# Altium integrated library FPGA Instruments.IntLib: 10 symbols
Pins are listed as number, name and electrical type; pins without a type are passive.

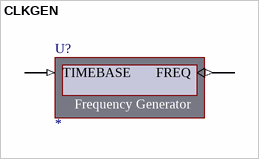
[diagram p0: symbol CLKGEN]

## CLKGEN
designator U?
Frequency Generator; NEXUS_CORE: Instrument; NEXUS_JTAG_DEVICE: True; NEXUS_JTAG_ORDER: 0; Published: 3-Nov-2004; Publisher: Altium Limited; Core Revision: 1.00.00; ComponentLink1Description: Core &Resource Usage; ComponentLink1URL: CR0134 FPGA Instrument Resource Usage.pdf#page=2; HelpURL: https://wiki.altium.com/display/ADOH/Frequency+Generator+Module; LastRevisionNo: 1.00.00
pins: FREQ (out), TIMEBASE (in)


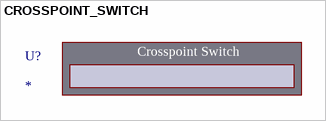
[diagram p1: symbol CROSSPOINT_SWITCH]

## CROSSPOINT_SWITCH
designator U?
Crosspoint Switch; NEXUS_CORE: Instrument; NEXUS_JTAG_DEVICE: True; NEXUS_JTAG_ORDER: 0; ConfiguratorName: CrosspointSwitch; ComponentLink1Description: Core &Resource Usage; Core Revision: 1.00.00; HelpURL: https://wiki.altium.com/display/ADOH/Crosspoint+Switch+Module; LastRevisionNo: 1.00.00; Published: 04-Jul-2007; Publisher: Altium Limited


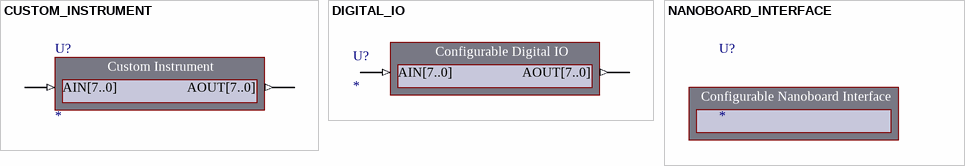
[diagram p2: symbols CUSTOM_INSTRUMENT to NANOBOARD_INTERFACE]

## CUSTOM_INSTRUMENT
designator U?
Custom Instrument; NEXUS_JTAG_DEVICE: True; NEXUS_JTAG_ORDER: 0; ConfiguratorName: CUSTOM_INSTRUMENT; ConfigurationParameters: {}Version[1.0]{}Input0Name[AIN{1}7..0{2}]{}Input0Width[8]{}Input0InitValue[0]{}Output0Name[AOUT{1}7..0{2}]{}Output0Width[8]{}Output0InitValue[0]{}; NEXUS_CORE: Instrument; ComponentLink1Description: Core &Resource Usage; ComponentLink1URL: CR0134 FPGA Instrument Resource Usage.pdf; Core Revision: 1.00.00; HelpURL: https://wiki.altium.com/display/ADOH/Custom+Instrument; LastRevisionNo: 1.00.00; Published: 08-Apr-2008; Publisher: Altium Limited
pins: AIN[7..0] (in), AOUT[7..0] (out)

## DIGITAL_IO
designator U?
Configurable Digital IO; NEXUS_CORE: Instrument; NEXUS_JTAG_DEVICE: True; NEXUS_JTAG_ORDER: 0; ConfiguratorName: DIGITAL_IO; ConfigurationParameters: {}Version[1.0]{}SchCompWidth[140]{}InterfaceType[Parallel]{}DisabledInDashboard[False]{}Input0Name[AIN{1}7..0{2}]{}Input0Width[8]{}Input0InitValue[0]{}Input0Kind[LEDs]{}Input0LEDStyle[Red]{}Output0Name[AOUT{1}7..0{2}]{}Output0Width[8]{}Output0InitValue[0]{}Output0Kind[Numeric]{}Output0NumRadix[Binary]{}; ComponentLink1Description: Core &Resource Usage; ComponentLink1URL: CR0134 FPGA Instrument Resource Usage.pdf; Core Revision: 1.00.00; HelpURL: https://wiki.altium.com/display/ADOH/Digital+IO+Module; LastRevisionNo: 1.00.00; Published: 28-Jun-2007; Publisher: Altium Limited; UseInDSF: True
pins: AIN[7..0] (in), AOUT[7..0] (out)

## NANOBOARD_INTERFACE
designator U?
Configurable Nanoboard Interface; NEXUS_CORE: Instrument; NEXUS_JTAG_DEVICE: True; NEXUS_JTAG_ORDER: 0; ConfiguratorName: DIGITAL_IO_APPLICATION; ConfigurationParameters: {}Version[1.0]{}StorageType[0]{}AutoRun[False]{}DisabledInDashboard[False]{}; ComponentLink1Description: Core &Resource Usage; ComponentLink1URL: CR0134 FPGA Instrument Resource Usage.pdf; Core Revision: 1.00.00; HelpURL: https://wiki.altium.com/display/ADOH/Connected+FPGA+Scripts; LastRevisionNo: 1.00.00; Published: 06-May-2009; Publisher: Altium Limited


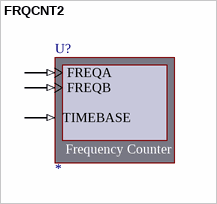
[diagram p3: symbol FRQCNT2]

## FRQCNT2
designator U?
Frequency Counter; NEXUS_CORE: Instrument; NEXUS_JTAG_DEVICE: True; NEXUS_JTAG_ORDER: 0; Published: 3-Nov-2004; Publisher: Altium Limited; Core Revision: 1.00.00; ComponentLink1Description: Core &Resource Usage; ComponentLink1URL: CR0134 FPGA Instrument Resource Usage.pdf#page=3; HelpURL: https://wiki.altium.com/display/ADOH/Counter+Module; LastRevisionNo: 1.00.00
pins: FREQA (in), FREQB (in), TIMEBASE (in)


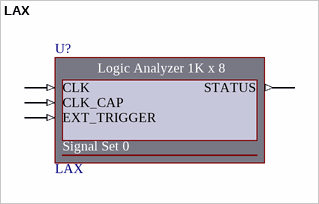
[diagram p4: symbol LAX]

## LAX
designator U?
Configurable Logic Analyzer; NEXUS_CORE: Instrument; NEXUS_JTAG_DEVICE: True; NEXUS_JTAG_ORDER: 0; ConfiguratorName: LogicAnalyser; ConfigurationParameters: {}Version[1.0]{}CaptureWidth[8]{}MemorySize[1K]{}ExtAddrWidth[10]{}Set0[Signal Set 0]{}ConnectSpareToGND[True]{}; ChildModel1: LAX_CFG8; Published: 12-Oct-2005; Publisher: Altium Limited; Core Revision: 1.00.00; HelpURL: https://wiki.altium.com/display/ADOH/Logic+Analyzer; LastRevisionNo: 1.00.00; ComponentLink1Description: Core &Resource Usage; ComponentLink1URL: CR0134 FPGA Instrument Resource Usage.pdf#page=10
pins: CLK (in), CLK_CAP (in), EXT_TRIGGER (in), Set0_Spare[7..0] (in) hidden to GND_BUS[7..0], STATUS (out)
text: Logic Analyzer 1K x 8; Signal Set 0


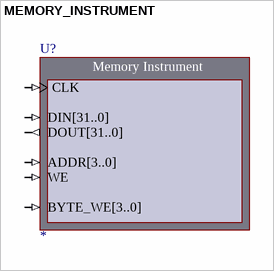
[diagram p5: symbol MEMORY_INSTRUMENT]

## MEMORY_INSTRUMENT
designator U?
Configurable Memory Instrument; NEXUS_JTAG_DEVICE: True; NEXUS_JTAG_ORDER: 0; ConfiguratorName: MEMORY_INSTRUMENT; ConfigurationParameters: {}Version[1.0]{}Option_MemoryDepthText[16]{}Option_MemoryWidth[32]{}Option_MemoryType[0]{}Option_ByteWrites[True]{}Option_RisingEdgeClock[True]{}Option_UseDistributed[False]{}Option_InitMemoryFlag[False]{}Option_MemoryFileName[ ]{}; NEXUS_CORE: Instrument; ComponentLink1Description: Core &Resource Usage; ComponentLink1URL: CR0134 FPGA Instrument Resource Usage.pdf; Core Revision: 1.00.00; HelpURL: https://wiki.altium.com/display/ADOH/Memory+Instrument; LastRevisionNo: 1.00.00; Published: 13-Feb-2009; Publisher: Altium Limited
pins: ADDR[3..0] (in), BYTE_WE[3..0] (in), CLK (in), DIN[31..0] (in), DOUT[31..0] (out), WE (in)
text: Memory Instrument


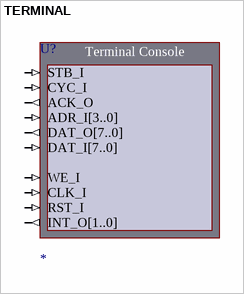
[diagram p6: symbol TERMINAL]

## TERMINAL
designator U?
Instrument Terminal (Wishbone); NEXUS_JTAG_DEVICE: True; NEXUS_JTAG_ORDER: 0; Published: 03-Jul-2007; Publisher: Altium Limited; ComponentLink1Description: Core &Resource Usage; ComponentLink1URL: CR0134 FPGA Instrument Resource Usage.pdf; HelpURL: https://wiki.altium.com/display/ADOH/Terminal+Module; LastRevisionNo: 1.00.00; NEXUS_CORE: Instrument; UseInDSF: True
pins: ACK_O (out), ADR_I[3..0] (in), CLK_I (in), CYC_I (in), DAT_I[7..0] (in), DAT_O[7..0] (out), INT_O[1..0] (out), RST_I (in), STB_I (in), WE_I (in)
text: Terminal Console


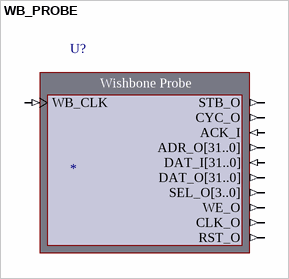
[diagram p7: symbol WB_PROBE]

## WB_PROBE
designator U?
Wishbone Probe Instrument; NEXUS_JTAG_DEVICE: True; NEXUS_JTAG_ORDER: 0; Published: 12-May-2009; Publisher: Altium Limited; Core Revision: 1.00.00; NEXUS_CORE: Instrument; ComponentLink1Description: Core &Resource Usage; HelpURL: https://wiki.altium.com/display/ADOH/Wishbone+Probe+Instrument; LastRevisionNo: 1.00.00
pins: ACK_I (in), ADR_O[31..0] (out), CLK_O (out), CYC_O (out), DAT_I[31..0] (in), DAT_O[31..0] (out), RST_O (out), SEL_O[3..0] (out), STB_O (out), WB_CLK (in), WE_O (out)
text: Wishbone Probe